# EAGLE library part NC7WZ08K8X (library pierre_vv)
UHS Dual 2-Input AND Gate
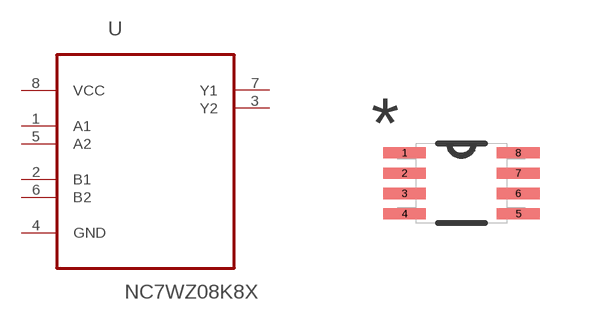
[diagram p10: symbol with the pads of SOP50P310X90-8N; footprint SOP50P310X90-8N]

Designator prefix U

## NC7WZ08K8X (MPN: NC7WZ08K8X; OC_FARNELL: 1613998; OC_NEWARK: 58K2000; PACKAGE: SOP-8; SUPPLIER: FAIRCHILD SEMICONDUCTOR)  [SOP50P310X90-8N]
1  A1  in
2  B1  in
3  Y2  out
4  GND  pas
5  A2  in
6  B2  in
7  Y1  out
8  VCC  pwr

## Footprint SOP50P310X90-8N (pad centres in mm)
smd 1.067 x 0.279: 1 -1.422,0.762; 2 -1.422,0.254; 3 -1.422,-0.254; 4 -1.422,-0.762; 5 1.422,-0.762; 6 1.422,-0.254; 7 1.422,0.254; 8 1.422,0.762